# Altium footprint library 28Pins_Projects_V1I1.PcbLib: 27 footprints (part 1 of 2)
Each footprint in its own frame and in the unit in brackets; x right, y up, seen from the top. Pads: shape width x height; smd on the part's side, far side on the other; paste and mask are expansions set on the pad; w line width, h text height; cw(c..) or ccw(c..) is an arc to the next point about the centre after c.
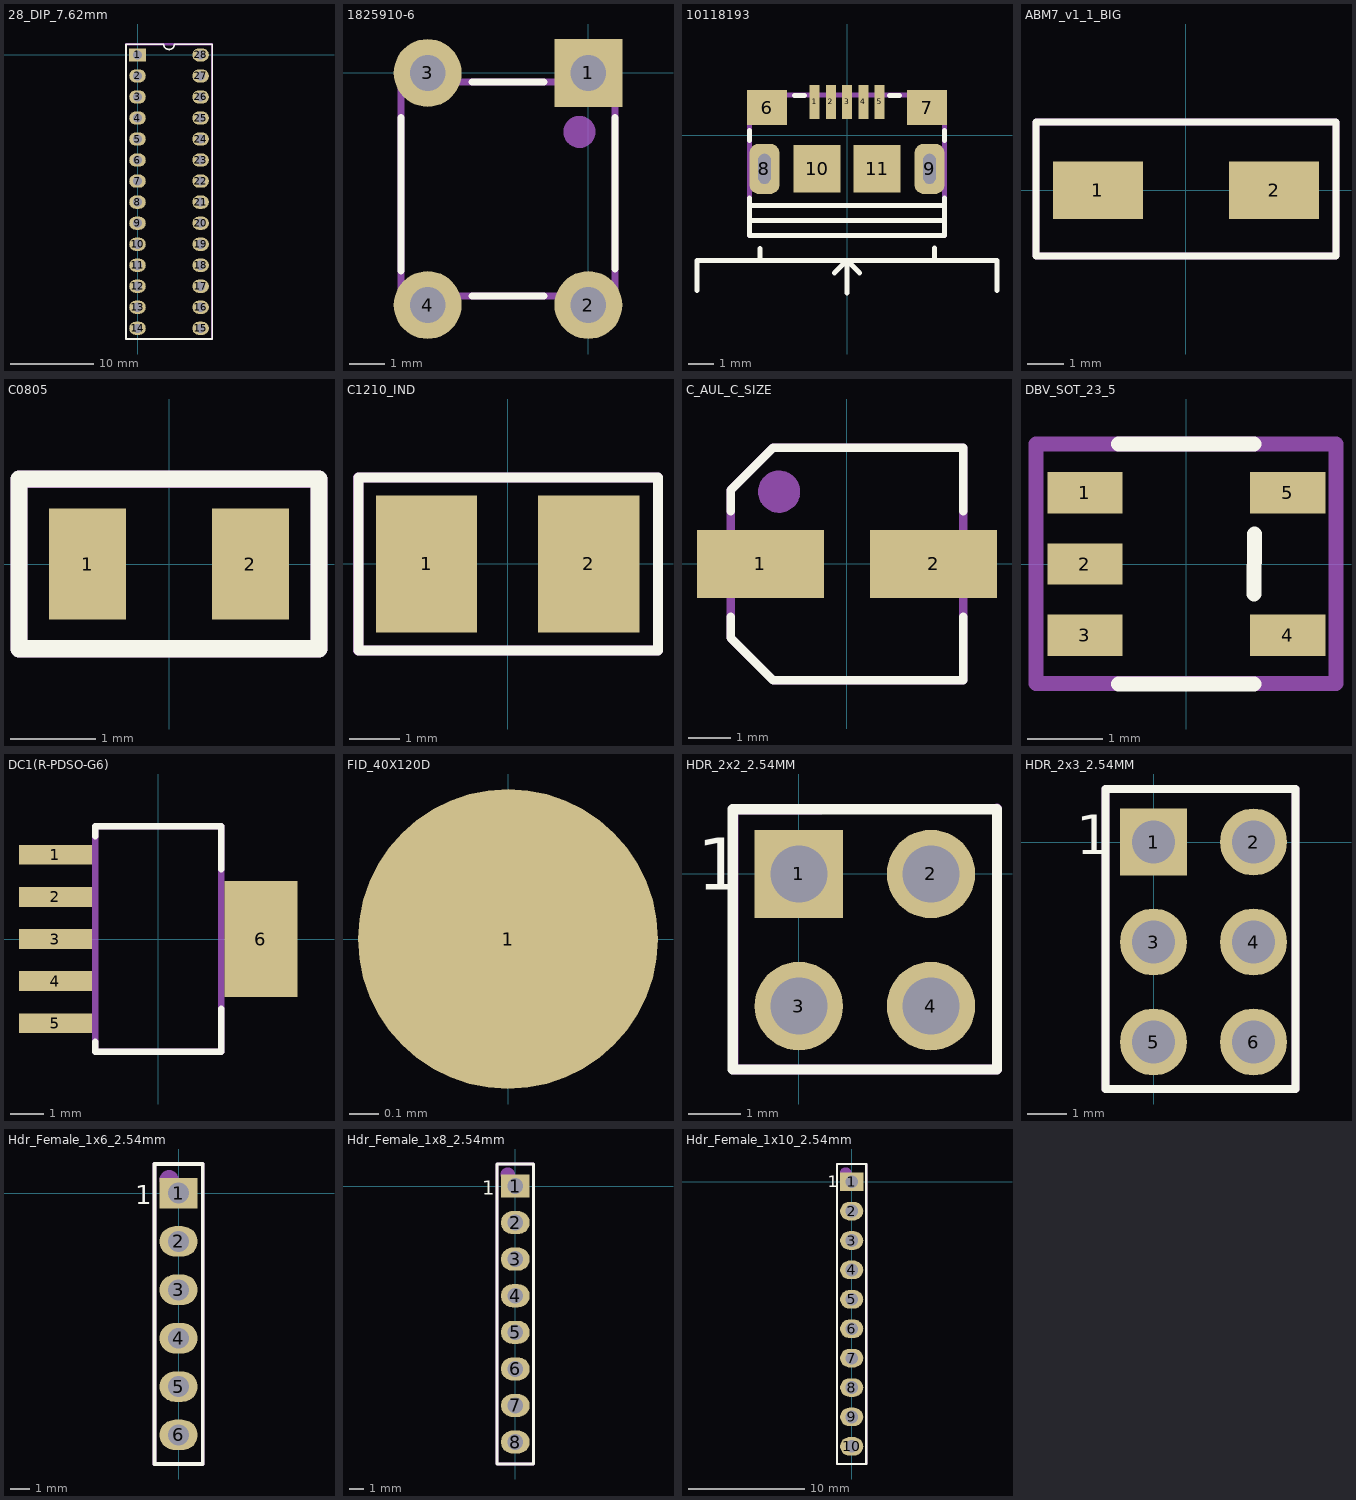
[diagram p0: the footprints below, top view; thin cyan lines are the x and y axes]

## 28_DIP_7.62mm [mm]
pads (28):
  rect 2x1.6 hole 1.1: 1(0,0)
  oval 2x1.6 hole 1.1: 2(0,-2.54) 3(0,-5.08) 4(0,-7.62) 5(0,-10.16) 6(0,-12.7) 7(0,-15.24) 8(0,-17.78) 9(0,-20.32) 10(0,-22.86) 11(0,-25.4) 12(0,-27.94) 13(0,-30.48) 14(0,-33.02) 15(7.62,-33.02) 16(7.62,-30.48) 17(7.62,-27.94) 18(7.62,-25.4) 19(7.62,-22.86) 20(7.62,-20.32) 21(7.62,-17.78) 22(7.62,-15.24) 23(7.62,-12.7) 24(7.62,-10.16) 25(7.62,-7.62) 26(7.62,-5.08) 27(7.62,-2.54) 28(7.62,0)
Top Overlay:
  lines w0.2: -1.39,-34.31 9.01,-34.31 9.01,1.29 4.445,1.29 cw(c3.81,1.29) 3.175,1.29 -1.39,1.29 -1.39,-34.31
Mechanical 29:
  circle w0.5: c0.003,0.008 r0.383
  circle w0.254: c-0.042,0.057 r0.044
  lines w0.254: -1.401,1.273 -1.401,-34.272 -1.363,-34.309 8.989,-34.309 8.999,-34.3 8.999,1.282 8.989,1.292 -1.363,1.292
  text "'.Designator'" at 4.494,-17.559 h1.52
3D body "User Library-28 pin dip-1.step": height 7.55, standoff 1.33, extent -0.192,-34.416 7.682,1.525

## 28_DIP_7.62mm_SOCKET [mm]
3D body "dil_socket.stp": height 4.2, standoff -3.17, extent -1.24,-34.26 8.86,1.24

## 1825910-6 [mm]
pads (4):
  rect 1.9x1.9 hole 1: 1(0,0)
  round 1.9 hole 1: 2(0,-6.5) 3(-4.5,0) 4(-4.5,-6.5)
Top Overlay:
  lines w0.2: -5.25,-5.55 -5.25,-1.25 ; -3.25,-6.25 -1.25,-6.25 ; -3.25,-0.25 -1.25,-0.25 ; 0.75,-5.484 0.75,-1.25
Mechanical 29:
  circle w0.5: c-0.25,-1.65 r0.2
  lines w0.2: -5.25,-0.256 -5.247,-0.253 ; -5.25,-0.25 -5.25,-6.25 0.75,-6.25 0.743,-6.243 0.743,-0.25 -5.244,-0.25
  text "'.Designator'" at -1.957,-4.488 h1
3D body "Button-FSM4JLH(1825910-5).step": height 5.01, standoff -3.5, extent -5.245,-7.148 0.745,0.65

## 10118193 [mm]
pads (11):
  rect 0.4x1.35 smd mask+0.05: 1(-1.3,1.338) 2(-0.65,1.338) 3(0,1.338) 4(0.65,1.338) 5(1.3,1.338)
  rect 1.6x1.4 smd: 6(-3.2,1.112) 7(3.2,1.112)
  rrect60% 1.2x2 hole 0.5 slot 1.2 at 90 deg: 8(-3.3,-1.338) 9(3.3,-1.338)
  rect 1.9x1.9 smd: 10(-1.2,-1.338) 11(1.2,-1.338)
Top Overlay:
  lines w0.2: -6,-6.2 -6,-5 6,-5 6,-6.2 ; -3.9,-3.25 -3.9,-3.4 3.9,-3.4 ; -3.9,-2.8 3.9,-2.8 ; -3.9,-2.5 -3.9,-4 3.9,-4 3.9,-2.5 ; -3.9,-0.2 -3.9,0.2 ; -3.479,-4.988 -3.479,-4.521 ; -2.1,1.6 -1.7,1.6 ; -0.5,-5.5 0,-5 ; 0,-6.3 0,-5 ; 0,-5.064 0,-5 ; 0,-5.051 0,-5.032 ; 0.5,-5.5 0,-5 ; 1.7,1.6 2.1,1.6 ; 3.5,-5 3.5,-4.5 ; 3.9,-0.2 3.9,0.2
Mechanical 29:
  lines w0.2: -3.9,1.607 -3.9,-4 3.9,-4 3.9,1.608 -3.9,1.608 ; -3.9,1.607 -3.9,1.608
  text "'.Designator'" at -2.361,-1.409 h1
3D body "Micro_USB-10118193-0001LF.STEP": height 2.81, standoff -0.79, extent -3.93,-4.073 3.93,1.637

## ABM7_v1_1_BIG [mm]
pads (2):
  rect 2.5x1.6 smd: 1(-2.45,0) 2(2.45,0)
Top Overlay:
  lines w0.2: -4.165,-1.831 -4.165,1.89 4.165,1.89 4.165,-1.831 -4.165,-1.831
Mechanical 29:
  lines w0.2: -4.164,-1.831 4.167,-1.831 4.165,-1.829 4.165,1.893 -4.164,1.893 -4.164,-1.831 ; -4.164,-1.831 -4.164,-1.831
  text "'.Designator'" at -0.642,-0.073 h0.8
3D body "ABM7-16.000MHZ-D2Y-T.step": height 1.36, standoff -0.04, extent -3.125,-1.918 3.087,1.882

## C0805 [mm]
pads (2):
  rect 0.9x1.3 smd: 1(-0.95,0) 2(0.95,0)
Top Overlay:
  lines w0.2: -1.753,-0.989 -1.753,0.992 1.753,0.992 1.753,-0.989 -1.753,-0.989
Mechanical 29:
  lines w0.2: -1.753,-0.991 1.753,-0.991 1.753,0.991 -1.753,0.991 -1.753,-0.991
  text "'.Designator'" at -0.301,-0.056 h0.5
3D body "CAPC2012X94N EIA 0805.step": height 1.45, standoff 0.51, extent -1.007,-0.603 0.993,0.597
3D body "CAPC2012X94N EIA 0805.step": height 0.94, standoff 0, extent -1.006,-0.603 0.994,0.597

## C1210_IND [mm]
pads (2):
  rect 2x2.7 smd: 1(-1.6,0) 2(1.6,0)
Top Overlay:
  lines w0.2: -2.943,-1.708 2.96,-1.708 2.96,1.707 -2.943,1.707 -2.943,-1.708
Mechanical 29:
  lines w0.2: -2.944,-1.707 -2.944,1.706 2.962,1.706 2.962,-1.707 -2.944,-1.707
  text "'.Designator'" at -2.208,-0.322 h0.8
3D body: height 5.41, standoff -0.01, extent 2.873,-1.444 2.873,-1.444
3D body: height 5.41, standoff -0.01, extent -1.4,-1.25 -1.4,-1.25
3D body: height 5.41, standoff -0.01, extent -1.339,1.272 -1.339,1.272
3D body: height 2.7, standoff 0, extent -1.3,-1.25 1.3,1.25
3D body: height 2.7, standoff 0, extent -1.6,-1.25 -1.3,1.25
3D body: height 2.7, standoff 0, extent -1.6,-1.25 -1.3,1.25
3D body: height 2.7, standoff 0, extent 1.3,-1.25 1.6,1.25

## C_AUL_C_SIZE [mm]
pads (2):
  rect 3x1.6 smd: 1(-2.05,0) 2(2.05,0)
Top Overlay:
  lines w0.2: -2.75,-1.25 -2.75,-1.75 -1.75,-2.75 2.75,-2.75 2.75,-1.25 ; -2.75,1.25 -2.75,1.75 -1.75,2.75 2.75,2.75 2.75,1.25
Mechanical 29:
  circle w0.5: c-1.607,1.712 r0.25
  lines w0.2: -2.75,-1.749 -2.75,1.752 -1.752,2.75 2.751,2.75 2.751,-2.749 -1.749,-2.749 -2.75,-1.749
  text "'.Designator'" at -2.492,0.186 h1
3D body "CAP_ALU_SIZE_C.step": height 5.41, standoff -0.01, extent -2.95,-2.65 2.95,2.65

## DBV_SOT_23_5 [mm]
pads (5):
  rect 1x0.55 smd: 1(-1.35,0.95) 2(-1.35,0) 3(-1.35,-0.95) 4(1.35,-0.95) 5(1.35,0.95)
Top Overlay:
  lines w0.2: -0.9,-1.6 0.9,-1.6 ; -0.9,1.6 0.9,1.6 ; 0.9,-0.4 0.907,0.401
Mechanical 29:
  circle w0.254: c-1.364,0.972 r0.12
  lines w0.2: 1.993,1.6 -2,1.6 -2,-1.593 1.993,-1.593 1.993,1.6 ; 1.993,1.6 1.993,1.6
  text "'.Designator'" at -0.764,-0.184 h1
3D body "AND-GATE-TPS79333DBVR.step": height 1.61, standoff -0.01, extent -1.513,-1.525 1.514,1.525

## DC1(R-PDSO-G6) [mm]
pads (6):
  rect 2.2x0.6 smd: 1(-3.1,2.54) 2(-3.1,1.27) 3(-3.1,0) 4(-3.1,-1.27) 5(-3.1,-2.54)
  rect 2.2x3.5 smd: 6(3.1,0)
Top Overlay:
  lines w0.2: -1.9,-3.096 -1.9,-3.4 1.9,-3.4 1.9,-2.1 ; -1.9,3.1 -1.9,3.4 1.9,3.4 1.9,2.1
Mechanical 29:
  lines w0.2: -1.9,-3.4 1.9,-3.4 1.9,3.4 -1.9,3.4 -1.9,-3.4
  text "'.Designator'" at 0.192,-2.978 h1
3D body "TPS73701DCQ.step": height 1.79, standoff -0.01, extent -3.63,-3.275 3.63,3.275

## FID_40X120D [mil]
pads (1):
  round 40 smd paste-40 mask+40: 1(0,0)

## HDR_2x2_2.54MM [mm]
pads (4):
  rect 1.7x1.7 hole 1.1: 1(0,0)
  round 1.7 hole 1.1: 2(2.54,0) 3(0,-2.54) 4(2.54,-2.54)
Top Overlay:
  lines w0.2: -1.27,-3.759 3.81,-3.759 3.81,1.245 -1.27,1.245 -1.27,-3.759
  text "1" at -1.959,-0.308 h1
Mechanical 29:
  circle w0.508: c-0.254,0.254 r0.185
  lines w0.2: -1.264,-3.759 -1.264,1.233 3.81,1.259 3.81,-3.759 -1.264,-3.759
  text "'.Designator'" at 1.686,-3.383 h1
3D body "961204-6404-XX.stp": height 7.51, standoff -3.79, extent -1.27,-3.77 3.81,1.23

## HDR_2x3_2.54MM [mm]
pads (6):
  rect 1.7x1.7 hole 1.1: 1(0,0)
  round 1.7 hole 1.1: 2(2.54,0) 3(0,-2.54) 4(2.54,-2.54) 5(0,-5.08) 6(2.54,-5.08)
Top Overlay:
  lines w0.2: -1.219,-6.274 3.607,-6.274 3.607,1.346 -1.219,1.346 -1.219,-6.274
  text "1" at -1.959,-0.308 h1
Mechanical 29:
  circle w0.508: c-0.254,0.254 r0.185
  lines w0.2: -1.219,-6.274 3.607,-6.274 3.607,1.346 -1.219,1.346 -1.219,-6.274
  text "'.Designator'" at 1.612,-4.992 h1
3D body "67997-106HLF.stp": height 8.39, standoff -3.04, extent -1.219,-6.274 3.611,1.346

## Hdr_Female_1x6_2.54mm [mm]
pads (6):
  rect 2x1.6 hole 1.1: 1(0,0)
  oval 2x1.6 hole 1.1: 2(0,-2.54) 3(0,-5.08) 4(0,-7.62) 5(0,-10.16) 6(0,-12.7)
Top Overlay:
  lines w0.2: -1.27,-14.224 -0.635,-14.224 0.635,-14.224 1.27,-14.224 ; -1.27,-14.211 -1.27,1.524 1.27,1.524 1.27,-14.211
  text "1" at -2.281,-0.59 h1
Mechanical 29:
  circle w0.5: c-0.501,0.706 r0.254
  lines w0.2: -1.273,-14.211 -1.273,1.524 ; -1.27,-14.224 -0.635,-14.224 0.635,-14.224 1.27,-14.224 ; -1.27,1.528 -1.27,1.524 1.27,1.524 ; 1.267,-14.211 1.267,1.524
  text ".Designator" at 0.571,-12.624 h1.52
3D body "m20-7820646_asm.stp": height 8.31, standoff -3.19, extent -1.25,-14.17 1.25,1.47

## Hdr_Female_1x8_2.54mm [mm]
pads (8):
  rect 2x1.6 hole 1.1: 1(0,0)
  oval 2x1.6 hole 1.1: 2(0,-2.54) 3(0,-5.08) 4(0,-7.62) 5(0,-10.16) 6(0,-12.7) 7(0,-15.24) 8(0,-17.78)
Top Overlay:
  lines w0.2: -1.27,-19.304 1.27,-19.304 1.27,1.524 -1.27,1.524 -1.27,-19.304
  text "1" at -2.281,-0.59 h1
Mechanical 29:
  circle w0.5: c-0.525,0.791 r0.254
  lines w0.2: -1.273,-19.302 -0.638,-19.302 0.632,-19.302 1.267,-19.302 ; -1.27,-19.302 -1.27,1.528 -1.27,1.524 1.27,1.524 1.27,-19.302
  text ".Designator" at 0.434,-13.18 h1.52
3D body "m20-7820842_asm.stp": height 8.31, standoff -3.19, extent -1.25,-19.25 1.25,1.47

## Hdr_Female_1x10_2.54mm [mm]
pads (10):
  rect 2x1.6 hole 1.1: 1(0,0)
  oval 2x1.6 hole 1.1: 2(0,-2.54) 3(0,-5.08) 4(0,-7.62) 5(0,-10.16) 6(0,-12.7) 7(0,-15.24) 8(0,-17.78) 9(0,-20.32) 10(0,-22.86)
Top Overlay:
  lines w0.2: -1.27,-24.384 -1.27,1.524 1.27,1.524 1.27,-24.384 -1.27,-24.384
  text "1" at -2.079,-0.464 h1
Mechanical 29:
  circle w0.5: c-0.516,0.737 r0.254
  lines w0.2: -1.27,-24.384 1.27,-24.384 1.27,1.524 -1.27,1.524 -1.27,1.528 -1.27,-24.384
  text ".Designator" at 0.564,-15.17 h1.52
3D body "m20-7821046_asm.stp": height 8.31, standoff -3.19, extent -1.25,-24.33 1.25,1.47